# Altium schematic symbol library MCP9701-E_TO.Schlib: 1 symbol
Pins are listed as number, name and electrical type; pins without a type are passive.

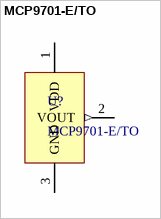
[diagram p0: symbol MCP9701-E/TO]

## MCP9701-E/TO
designator U?
Temperature Sensor Analog, Local -10°C ~ 125°C 19.5mV/°C TO-92-3
pins: 1 VDD (power), 2 VOUT (out), 3 GND (power)